# Altium footprint library QFN40P800X800X85_HS-69N.PcbLib: 1 footprints
Each footprint in its own frame and in the unit in brackets; x right, y up, seen from the top. Pads: shape width x height; smd on the part's side, far side on the other; paste and mask are expansions set on the pad; w line width, h text height; cw(c..) or ccw(c..) is an arc to the next point about the centre after c.
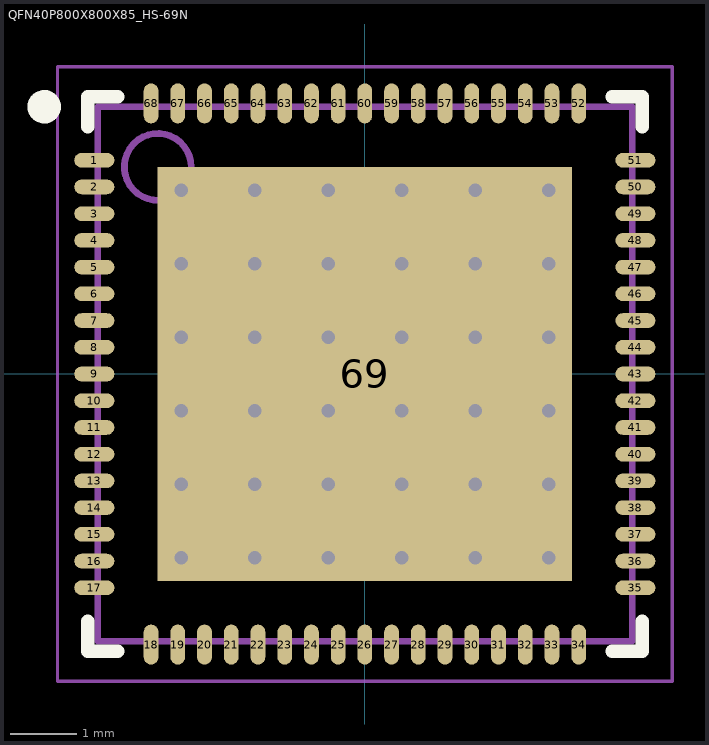
[diagram p0: the footprint, top view; thin cyan lines are the x and y axes]

## QFN40P800X800X85_HS-69N [mm] "QFN, 68-Leads, Body 8.00x8.00mm, Pitch 0.40mm, Thermal Pad 6.20x6.20mm, IPC Medium Density"
height 0.85
pads (69):
  oval 0.6x0.22 smd: 1(-4.05,3.2) 2(-4.05,2.8) 3(-4.05,2.4) 4(-4.05,2) 5(-4.05,1.6) 6(-4.05,1.2) 7(-4.05,0.8) 8(-4.05,0.4) 9(-4.05,0) 10(-4.05,-0.4) 11(-4.05,-0.8) 12(-4.05,-1.2) 13(-4.05,-1.6) 14(-4.05,-2) 15(-4.05,-2.4) 16(-4.05,-2.8) 17(-4.05,-3.2) 35(4.05,-3.2) 36(4.05,-2.8) 37(4.05,-2.4) 38(4.05,-2) 39(4.05,-1.6) 40(4.05,-1.2) 41(4.05,-0.8) 42(4.05,-0.4) 43(4.05,0) 44(4.05,0.4) 45(4.05,0.8) 46(4.05,1.2) 47(4.05,1.6) 48(4.05,2) 49(4.05,2.4) 50(4.05,2.8) 51(4.05,3.2)
  oval 0.22x0.6 smd: 18(-3.2,-4.05) 19(-2.8,-4.05) 20(-2.4,-4.05) 21(-2,-4.05) 22(-1.6,-4.05) 23(-1.2,-4.05) 24(-0.8,-4.05) 25(-0.4,-4.05) 26(0,-4.05) 27(0.4,-4.05) 28(0.8,-4.05) 29(1.2,-4.05) 30(1.6,-4.05) 31(2,-4.05) 32(2.4,-4.05) 33(2.8,-4.05) 34(3.2,-4.05) 52(3.2,4.05) 53(2.8,4.05) 54(2.4,4.05) 55(2,4.05) 56(1.6,4.05) 57(1.2,4.05) 58(0.8,4.05) 59(0.4,4.05) 60(0,4.05) 61(-0.4,4.05) 62(-0.8,4.05) 63(-1.2,4.05) 64(-1.6,4.05) 65(-2,4.05) 66(-2.4,4.05) 67(-2.8,4.05) 68(-3.2,4.05)
  rect 6.2x6.2 smd: 69(0,0)
via 2.75,-2.75 diameter 0.4 hole 0.2
via 1.65,-2.75 diameter 0.4 hole 0.2
via 0.55,-2.75 diameter 0.4 hole 0.2
via -0.55,-2.75 diameter 0.4 hole 0.2
via -1.65,-2.75 diameter 0.4 hole 0.2
via -2.75,-2.75 diameter 0.4 hole 0.2
via 2.75,-1.65 diameter 0.4 hole 0.2
via 1.65,-1.65 diameter 0.4 hole 0.2
via 0.55,-1.65 diameter 0.4 hole 0.2
via -0.55,-1.65 diameter 0.4 hole 0.2
via -1.65,-1.65 diameter 0.4 hole 0.2
via -2.75,-1.65 diameter 0.4 hole 0.2
via 2.75,-0.55 diameter 0.4 hole 0.2
via 1.65,-0.55 diameter 0.4 hole 0.2
via 0.55,-0.55 diameter 0.4 hole 0.2
via -0.55,-0.55 diameter 0.4 hole 0.2
via -1.65,-0.55 diameter 0.4 hole 0.2
via -2.75,-0.55 diameter 0.4 hole 0.2
via 2.75,0.55 diameter 0.4 hole 0.2
via 1.65,0.55 diameter 0.4 hole 0.2
via 0.55,0.55 diameter 0.4 hole 0.2
via -0.55,0.55 diameter 0.4 hole 0.2
via -1.65,0.55 diameter 0.4 hole 0.2
via -2.75,0.55 diameter 0.4 hole 0.2
via 2.75,1.65 diameter 0.4 hole 0.2
via 1.65,1.65 diameter 0.4 hole 0.2
via 0.55,1.65 diameter 0.4 hole 0.2
via -0.55,1.65 diameter 0.4 hole 0.2
via -1.65,1.65 diameter 0.4 hole 0.2
via -2.75,1.65 diameter 0.4 hole 0.2
via 2.75,2.75 diameter 0.4 hole 0.2
via 1.65,2.75 diameter 0.4 hole 0.2
via 0.55,2.75 diameter 0.4 hole 0.2
via -0.55,2.75 diameter 0.4 hole 0.2
via -1.65,2.75 diameter 0.4 hole 0.2
via -2.75,2.75 diameter 0.4 hole 0.2
Top Overlay:
  circle w0.25: c-4.8,4 r0.125
  lines w0.2: -4.15,-3.7 -4.15,-4.15 -3.7,-4.15 ; -4.15,3.7 -4.15,4.15 -3.7,4.15 ; 3.7,-4.15 4.15,-4.15 4.15,-3.7 ; 3.7,4.15 4.15,4.15 4.15,3.7
Mechanical 13:
  circle w0.1: c-3.1,3.1 r0.5
  lines w0.1: -4,-4 4,-4 4,4 -4,4 -4,-4
Mechanical 15:
  lines w0.05: -4.6,-4.6 4.6,-4.6 4.6,4.6 -4.6,4.6 -4.6,-4.6
  lines w0.1: -0.5,0 0.5,0 ; 0,-0.5 0,0.5
3D body: height 0.85, standoff 0, extent -4.02,-4.02 4.02,4.02